# Altium integrated library omnivision.IntLib: 1 symbol
Pins are listed as number, name and electrical type; pins without a type are passive.

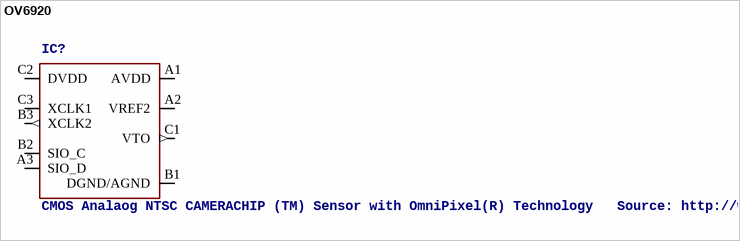
[diagram p0: symbol OV6920]

## OV6920
designator IC?, comment CMOS Analaog NTSC CAMERACHIP (TM) Sensor with OmniPixel(R) Technology   Source: http://www.ovt.com .. OV6920_DS+(1.1).pdf
OC_FARNELL: unknown; OC_NEWARK: unknown
footprint OV6920
pins: A1 AVDD, A2 VREF2, A3 SIO_D, B1 DGND/AGND, B2 SIO_C, B3 XCLK2 (out), C1 VTO (out), C2 DVDD, C3 XCLK1